# Altium integrated library Chap-11-实践题(3).IntLib: 13 symbols
Pins are listed as number, name and electrical type; pins without a type are passive.

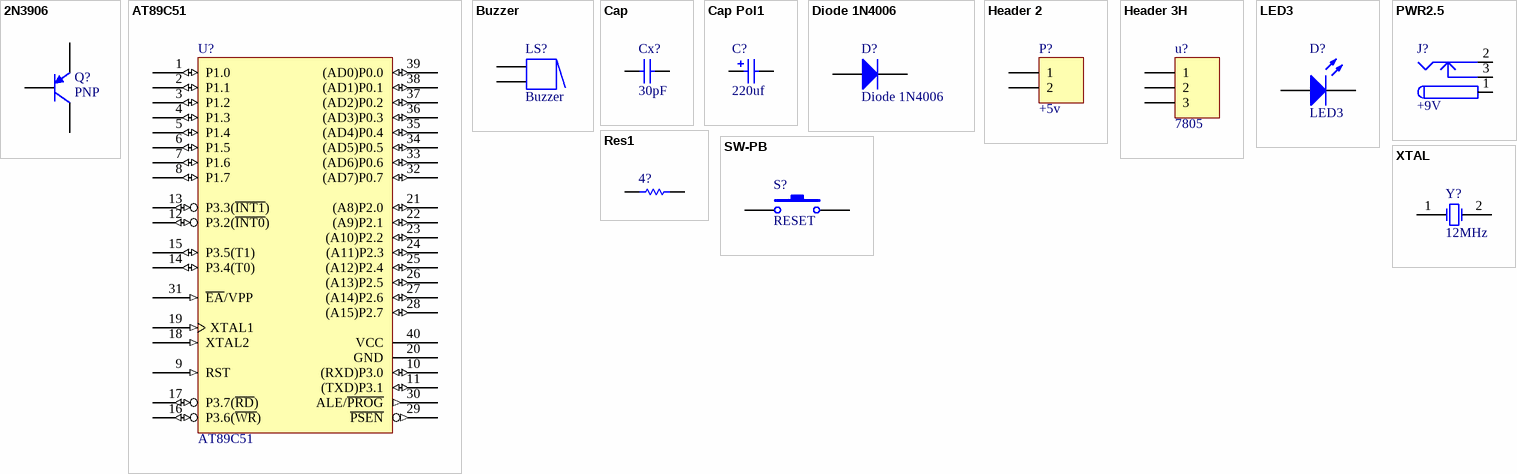
[diagram p0: symbols 2N3906 to XTAL]

## 2N3906
designator Q?, comment PNP
PNP General Purpose Amplifier; Published: 8-Jun-2000; LatestRevisionDate: 15-Jan-2003; LatestRevisionNote: PCB Footprint 'BCY-W3/D4.7' replaced; DatasheetVersion: 1997; PackageVersion: Sep-1998; PackageReference: TO-92A; Publisher: Altium Limited; PackageDescription: TO, Flat Index; 3 In-Line, Axial Leads; Body Dia. 4.5mm; Leads 0.51 x 0.48 mm (max); ComponentLink1Description: Manufacturer Link; ComponentLink1URL: http://www.fairchildsemi.com/; ComponentLink2Description: Datasheet; ComponentLink2URL: http://www.fairchildsemi.com/ds/2N%2F2N3906.pdf
footprint TO-92A (TO, Flat Index; 3 In-Line, Axial Leads; Body Dia. 4.5mm; Leads 0.51 x 0.48 mm (max))
simulation model 2N3906 (PNP)
signal-integrity model 2N3906
pins: 1 E, 2 B, 3 C

## AT89C51
designator U?
8-Bit Microcontroller with 4K Flash ROM
footprint DIP-40
pins: 1 P1.0 (io), 2 P1.1 (io), 3 P1.2 (io), 4 P1.3 (io), 5 P1.4 (io), 6 P1.5 (io), 7 P1.6 (io), 8 P1.7 (io), 9 RST (in), 10 (RXD)P3.0 (io), 11 (TXD)P3.1 (io), 12 P3.2(~{INT0}) (io), 13 P3.3(~{INT1}) (io), 14 P3.4(T0) (io), 15 P3.5(T1) (io), 16 P3.6(~{WR}) (io), 17 P3.7(~{RD}) (io), 18 XTAL2 (in), 19 XTAL1 (in), 20 GND (power), 21 (A8)P2.0 (io), 22 (A9)P2.1 (io), 23 (A10)P2.2 (io), 24 (A11)P2.3 (io), 25 (A12)P2.4 (io), 26 (A13)P2.5 (io), 27 (A14)P2.6 (io), 28 (A15)P2.7 (io), 29 ~{PSEN} (out), 30 ALE/~{PROG} (out), 31 ~{EA}/VPP (in), 32 (AD7)P0.7 (io), 33 (AD6)P0.6 (io), 34 (AD5)P0.5 (io), 35 (AD4)P0.4 (io), 36 (AD3)P0.3 (io), 37 (AD2)P0.2 (io), 38 (AD1)P0.1 (io), 39 (AD0)P0.0 (io), 40 VCC (power)

## Buzzer
designator LS?
Magnetic Transducer Buzzer; Published: 24-Mar-1999; LatestRevisionDate: 17-Dec-2003; LatestRevisionNote: Schematic revised, PCB Footprint replaced.; DatasheetVersion: 17-Dec-2003; PackageReference: ABSM-1574; Publisher: Altium Limited; PackageDescription: Magnetic Transducer Buzzer; ComponentLink1Description: Manufacturer Link; ComponentLink1URL: http://www.megastar.com/linecard/buzzmode/index.php
footprint ABSM-1574 (Magnetic Transducer Buzzer)
pins: 1, 1A, 2, 2A
1 alternate drawing of the same symbol

## Cap
designator Cx?  value 30pF  (hidden comment: Cap)
Capacitor; Published: 8-Jun-2000; LatestRevisionDate: 17-Jul-2002; LatestRevisionNote: Re-released for DXP Platform.; PackageReference: RAD-0.3; Publisher: Altium Limited; PackageDescription: Radial Cap, Thru-Hole; 2 Leads; 0.3 in Pin Spacing
footprint RAD-0.3 (Radial Cap, Thru-Hole; 2 Leads; 0.3 in Pin Spacing)
simulation model CAP (Capacitor)
signal-integrity model Cap
pins: 1, 2

## Cap Pol1
designator C?  value 220uf  (hidden comment: Cap Pol1)
Polarized Capacitor (Radial); Published: 8-Jun-2000; LatestRevisionDate: 17-Jul-2002; LatestRevisionNote: Re-released for DXP Platform.; PackageReference: RB7.6-15; Publisher: Altium Limited; PackageDescription: Polarized Capacitor (Radial); 2 Leads
footprint RB7.6-15 (Polarized Capacitor (Radial); 2 Leads)
simulation model CAP (Capacitor)
signal-integrity model Cap Pol
pins: 1, 2
1 alternate drawing of the same symbol

## Diode 1N4006
designator D?
1 Amp General Purpose Rectifier; Published: 8-Jun-2000; LatestRevisionDate: 17-Jul-2002; LatestRevisionNote: Re-released for DXP Platform.; DatasheetVersion: 1998; PackageVersion: Aug-1999; PackageReference: DO-41; Publisher: Altium Limited; PackageDescription: Diode, Axial; Body 5.2 x 2.7 mm (LxDia. max), Lead Dia. 0.86 mm (max); Code_JEDEC: DO-204-AL; ComponentLink1Description: Manufacturer Link; ComponentLink1URL: http://www.fairchildsemi.com/; ComponentLink2Description: Datasheet; ComponentLink2URL: http://www.fairchildsemi.com/ds/1N%2F1N4001.pdf
footprint DO-41 (Diode, Axial; Body 5.2 x 2.7 mm (LxDia. max), Lead Dia. 0.86 mm (max))
simulation model 1N4006 (DIODE)
signal-integrity model 1N4006
pins: 1 A, 2 K

## Header 2
designator P?, comment +5v
Header, 2-Pin; LatestRevisionDate: 17-Jul-2002; LatestRevisionNote: Re-released for DXP Platform.; Publisher: Altium Limited
footprint HDR1X2 (Connector; Header; 2 Position)
signal-integrity model Connector
pins: 1, 2

## Header 3H
designator u?, comment 7805
Header, 3-Pin, Right Angle; LatestRevisionDate: 17-Jul-2002; LatestRevisionNote: Re-released for DXP Platform.; Publisher: Altium Limited
footprint HDR1X3H (Connector; Header; 3 Position; Right Angle)
signal-integrity model Connector
pins: 1, 2, 3

## LED3
designator D?
Typical BLUE SiC LED; Published: 8-Jun-2000; LatestRevisionDate: 17-Dec-2003; LatestRevisionNote: PCB Footprint replaced.; DatasheetVersion: 16-Apr-2002; PackageVersion: 16-Apr-2002; PackageReference: 3.5X2.8X1.9; Publisher: Altium Limited; PackageDescription: SM LED; 2 C-Bend Leads; Body 3.5 x 2.8 x 1.9 mm, inc leads (LxWxH typ)
footprint 3.5X2.8X1.9 (SM LED; 2 C-Bend Leads; Body 3.5 x 2.8 x 1.9 mm, inc leads (LxWxH typ))
simulation model LED3 (Diode)
signal-integrity model LED
pins: 1 A, 2 K

## PWR2.5
designator J?, comment +9V
Low Voltage Power Supply Connector; Published: 17-Dec-2003; DatasheetDocument: 09-May-2002; Publisher: Altium Limited; ComponentLink1Description: Manufacturer Link; ComponentLink1URL: http://domino.kycon.com/internet/Products.html
footprint KLD-0202 (DC Power Jack, 2.5mm, KLD Series, PCB Mount)
signal-integrity model Connector
pins: 1 (power), 1A (power), 1B (power), 2 (power), 2A (power), 2B (power), 3 (power), 3A (power), 3B (power)

## Res1
designator 4?  (value not drawn)
Resistor; Value: 1K; Published: 8-Jun-2000; LatestRevisionDate: 17-Jul-2002; LatestRevisionNote: Re-released for DXP Platform.; PackageReference: AXIAL-0.3; Publisher: Altium Limited; PackageDescription: Axial Device, Thru-Hole; 2 Leads; 0.3 in Pin Spacing
footprint AXIAL-0.3 (Axial Device, Thru-Hole; 2 Leads; 0.3 in Pin Spacing)
simulation model RESISTOR (Resistor)
signal-integrity model Res
pins: 1, 2

## SW-PB
designator S?, comment RESET
Switch; Published: 24-Mar-1999; LatestRevisionDate: 17-Jul-2002; LatestRevisionNote: Re-released for DXP Platform.; PackageReference: SPST-2; Publisher: Altium Limited; PackageDescription: Switch; 2 Leads
footprint SPST-2 (Switch; 2 Leads)
pins: 1, 2

## XTAL
designator Y?, comment 12MHz
Crystal Oscillator; Published: 8-Jun-2000; LatestRevisionDate: 17-Jul-2002; LatestRevisionNote: Re-released for DXP Platform.; PackageReference: R38; Publisher: Altium Limited; PackageDescription: Crystal, Thru-Hole; 2 Leads; Body 3.1 x 8.2 mm (Dia.xH)
footprint R38 (Crystal, Thru-Hole; 2 Leads; Body 3.1 x 8.2 mm (Dia.xH))
simulation model XTAL (Spice Subcircuit)
pins: 1 OSC1, 2 OSC2